# Altium footprint library RC_SMD_3D.PcbLib: 33 footprints (part 1 of 3)
Each footprint in its own frame and in the unit in brackets; x right, y up, seen from the top. Pads: shape width x height; smd on the part's side, far side on the other; paste and mask are expansions set on the pad; w line width, h text height; cw(c..) or ccw(c..) is an arc to the next point about the centre after c.
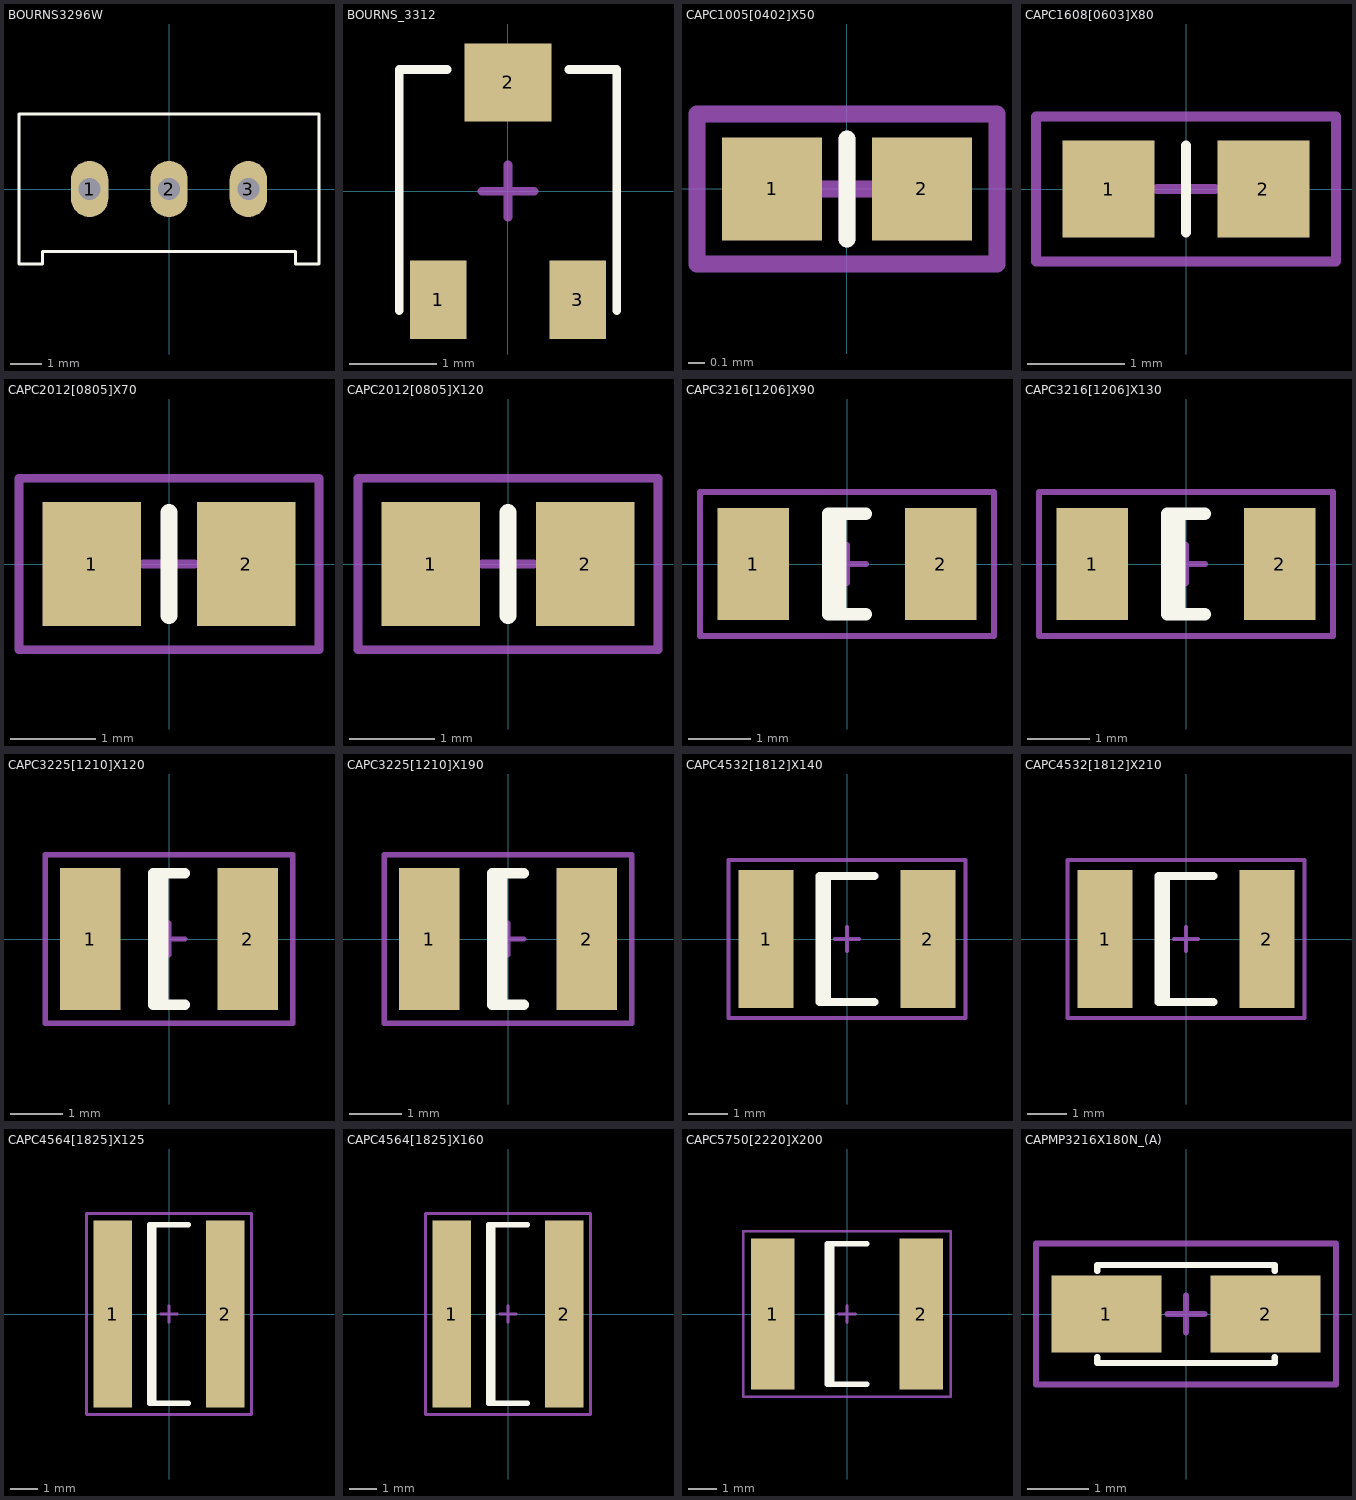
[diagram p0: the footprints below, top view; thin cyan lines are the x and y axes]

## BOURNS3296W [mm] "Trimmer 3296W"
height 11.5
pads (3):
  oval 1.2x1.8 hole 0.7: 1(-2.54,0) 2(0,0) 3(2.54,0)
Top Overlay:
  lines w0.1: -4.8,-2.4 -4.05,-2.4 -4.05,-2 4.05,-2 4.05,-2.4 4.8,-2.4 4.8,2.4 -4.8,2.4 -4.8,-2.4
3D body: height 10, standoff 9, extent -4.8,-2.4 -4.05,-2
3D body: height 10, standoff 9, extent 4.05,-2.4 4.8,-2
3D body: height 1, standoff 0, extent 4.05,-2.4 4.8,-2
3D body: height 1, standoff 0, extent -4.8,-2.4 -4.05,-2
3D body: height 0.4, standoff 0, extent -4.8,-2 -4.05,2.4
3D body: height 10, standoff 0.4, extent -4.8,-2 4.8,2.4
3D body: height 2, standoff 0, extent -2.798,-0.249 -2.3,0.25
3D body: height 0.4, standoff 0, extent -2.798,-0.249 -2.3,0.25
3D body: height 0.4, standoff 0, extent -0.248,-0.249 0.25,0.25
3D body: height 2, standoff 0, extent -0.248,-0.249 0.25,0.25
3D body: height 0.4, standoff 0, extent 2.302,-0.249 2.8,0.25
3D body: height 2, standoff 0, extent 2.302,-0.249 2.8,0.25
3D body: height 10.8, standoff 10, extent -4.591,0.002 -2.4,2.198
3D body: height 11.5, standoff 10.8, extent -3.496,-0.007 -2.39,2.207
3D body: height 11.5, standoff 10.8, extent -4.61,-0.007 -3.504,2.207

## BOURNS_3312 [mm] "Potentiometer 3pin"
height 1.7
pads (3):
  rect 0.65x0.9 smd: 1(-0.8,-1.25) 3(0.8,-1.25)
  rect 1x0.9 smd: 2(0,1.25)
Top Overlay:
  lines w0.1: -1.25,-1.375 -1.25,1.4 -0.7,1.4 ; 0.7,1.4 1.25,1.4 1.25,-1.375
Courtyard (15):
  lines w0.1: -0.3,0 0.3,0 ; 0,-0.3 0,0.3
3D body: height 1.3, standoff 0, extent -1,-1 0.992,0.996
3D body: height 1.7, standoff 0, extent 0.1,-0.806 0.806,0.806
3D body: height 1.7, standoff 0, extent -0.806,-0.803 -0.1,0.809
3D body: height 1.4, standoff 0, extent -0.1,-0.803 0.1,0.806
3D body: height 1.7, standoff 0, extent 0,-1.375 1.25,1.4
3D body: height 1.7, standoff 0, extent -1.25,-1.375 0,1.4
3D body: height 0.4, standoff 0, extent -1,-1.45 -0.625,-1.4
3D body: height 1.65, standoff 0, extent -1.175,-1.4 1.175,-1.375
3D body: height 1.65, standoff 0, extent -1.175,1.4 1.175,1.425
3D body: height 0.4, standoff 0, extent 0.613,-1.45 0.988,-1.4
3D body: height 0.4, standoff 0, extent -0.188,1.425 0.188,1.475

## CAPC1005[0402]X50 [mm] "Chip Capacitor; 1.0x0.5mm"
height 0.5
pads (2):
  rect 0.6x0.62 smd: 1(-0.45,0) 2(0.45,0)
Top Overlay:
  lines w0.1: 0,-0.3 0,0.3
Courtyard (15):
  lines w0.1: -0.3,0 0.3,0 ; 0,-0.3 0,0.3 ; -0.9,-0.45 -0.9,0.45 0.9,0.45 0.9,-0.45 -0.9,-0.45
3D body: height 0.5, standoff 0, extent -0.2,-0.25 0.2,0.25
3D body: height 0.5, standoff 0, extent -0.5,-0.25 -0.2,0.25
3D body: height 0.5, standoff 0, extent 0.2,-0.25 0.5,0.25

## CAPC1608[0603]X80 [mm] "Chip Capacitor; 1.6x0.8mm"
height 0.8
pads (2):
  rect 0.95x1 smd: 1(-0.8,0) 2(0.8,0)
Top Overlay:
  lines w0.1: 0,-0.45 0,0.45
Courtyard (15):
  lines w0.1: -0.3,0 0.3,0 ; 0,-0.3 0,0.3 ; -1.55,-0.75 -1.55,0.75 1.55,0.75 1.55,-0.75 -1.55,-0.75
3D body: height 0.8, standoff 0, extent -0.4,-0.4 0.4,0.4
3D body: height 0.8, standoff 0, extent -0.8,-0.4 -0.4,0.4
3D body: height 0.8, standoff 0, extent 0.4,-0.4 0.8,0.4

## CAPC2012[0805]X70 [mm] "Chip Capacitor; 2x1.25mm"
height 0.7
pads (2):
  rect 1.15x1.45 smd: 1(-0.9,0) 2(0.9,0)
Top Overlay:
  lines w0.2: 0,-0.6 0,0.6
Courtyard (15):
  lines w0.1: -0.3,0 0.3,0 ; 0,-0.3 0,0.3 ; -1.75,-1 -1.75,1 1.75,1 1.75,-1 -1.75,-1
3D body: height 0.7, standoff 0, extent -0.55,-0.6 0.55,0.6
3D body: height 0.7, standoff 0, extent -1.05,-0.6 -0.55,0.6
3D body: height 0.7, standoff 0, extent 0.55,-0.6 1.05,0.6

## CAPC2012[0805]X120 [mm] "Chip Capacitor; 2x1.25mm"
height 1.2
pads (2):
  rect 1.15x1.45 smd: 1(-0.9,0) 2(0.9,0)
Top Overlay:
  lines w0.2: 0,-0.6 0,0.6
Courtyard (15):
  lines w0.1: -0.3,0 0.3,0 ; 0,-0.3 0,0.3 ; -1.75,-1 1.75,-1 1.75,1 -1.75,1 -1.75,-1
3D body: height 1.2, standoff 0, extent -0.55,-0.6 0.55,0.6
3D body: height 1.2, standoff 0, extent -1.05,-0.6 -0.55,0.6
3D body: height 1.2, standoff 0, extent 0.55,-0.6 1.05,0.6

## CAPC3216[1206]X90 [mm] "Chip Capacitor; 3.2x1.6mm"
height 0.9
pads (2):
  rect 1.15x1.8 smd: 1(-1.5,0) 2(1.5,0)
Top Overlay:
  lines w0.2: -0.11,-0.8 -0.11,0.8 ; 0.3,-0.8 -0.3,-0.8 -0.3,0.8 0.3,0.8
Courtyard (15):
  lines w0.1: -0.3,0 0.3,0 ; 0,-0.3 0,0.3 ; -2.35,-1.15 2.35,-1.15 2.35,1.15 -2.35,1.15 -2.35,-1.15
3D body: height 0.9, standoff 0, extent -1.1,-0.8 1.1,0.8
3D body: height 0.9, standoff 0, extent -1.6,-0.8 -1.1,0.8
3D body: height 0.9, standoff 0, extent 1.1,-0.8 1.6,0.8

## CAPC3216[1206]X130 [mm] "Chip Capacitor; 3.2x1.6mm"
height 1.3
pads (2):
  rect 1.15x1.8 smd: 1(-1.5,0) 2(1.5,0)
Top Overlay:
  lines w0.2: -0.11,-0.8 -0.11,0.8 ; 0.3,-0.8 -0.3,-0.8 -0.3,0.8 0.3,0.8
Courtyard (15):
  lines w0.1: -0.3,0 0.3,0 ; 0,-0.3 0,0.3 ; -2.35,-1.15 2.35,-1.15 2.35,1.15 -2.35,1.15 -2.35,-1.15
3D body: height 1.3, standoff 0, extent -1.1,-0.8 1.1,0.8
3D body: height 1.3, standoff 0, extent -1.6,-0.8 -1.1,0.8
3D body: height 1.3, standoff 0, extent 1.1,-0.8 1.6,0.8

## CAPC3225[1210]X120 [mm] "Chip Capacitor; 3.2x2.5 mm"
height 1.2
pads (2):
  rect 1.15x2.7 smd: 1(-1.5,0) 2(1.5,0)
Top Overlay:
  lines w0.2: -0.11,-1.25 -0.11,1.25 ; 0.3,-1.25 -0.3,-1.25 -0.3,1.25 0.3,1.25
Courtyard (15):
  lines w0.1: -0.3,0 0.3,0 ; 0,-0.3 0,0.3 ; -2.35,-1.6 -2.35,1.6 2.35,1.6 2.35,-1.6 -2.35,-1.6
3D body: height 1.2, standoff 0, extent -1.1,-1.25 1.1,1.25
3D body: height 1.2, standoff 0, extent -1.6,-1.25 -1.1,1.25
3D body: height 1.2, standoff 0, extent 1.1,-1.25 1.6,1.25

## CAPC3225[1210]X190 [mm] "Chip Capacitor; 3.2x2.5mm"
height 1.9
pads (2):
  rect 1.15x2.7 smd: 1(-1.5,0) 2(1.5,0)
Top Overlay:
  lines w0.2: -0.11,-1.25 -0.11,1.25 ; 0.3,-1.25 -0.3,-1.25 -0.3,1.25 0.3,1.25
Courtyard (15):
  lines w0.1: -0.3,0 0.3,0 ; 0,-0.3 0,0.3 ; -2.35,-1.6 -2.35,1.6 2.35,1.6 2.35,-1.6 -2.35,-1.6
3D body: height 1.9, standoff 0, extent 1.1,-1.25 1.6,1.25
3D body: height 1.9, standoff 0, extent -1.6,-1.25 -1.1,1.25
3D body: height 1.9, standoff 0, extent -1.1,-1.25 1.1,1.25

## CAPC4532[1812]X140 [mm] "Chip Capacitor; 4.5x3.2mm"
height 1.4
pads (2):
  rect 1.4x3.5 smd: 1(-2.05,0) 2(2.05,0)
Top Overlay:
  lines w0.2: -0.51,-1.6 -0.51,1.6 ; 0.7,-1.6 -0.7,-1.6 -0.7,1.6 0.7,1.6
Courtyard (15):
  lines w0.1: -0.3,0 0.3,0 ; 0,-0.3 0,0.3 ; -3,-2 3,-2 3,2 -3,2 -3,-2
3D body: height 1.4, standoff 0, extent 1.65,-1.6 2.25,1.6
3D body: height 1.4, standoff 0, extent -2.25,-1.6 -1.65,1.6
3D body: height 1.4, standoff 0, extent -1.65,-1.6 1.65,1.6

## CAPC4532[1812]X210 [mm] "Chip Capacitor; 4.5x3.2mm"
height 2.1
pads (2):
  rect 1.4x3.5 smd: 1(-2.05,0) 2(2.05,0)
Top Overlay:
  lines w0.2: -0.51,-1.6 -0.51,1.6 ; 0.7,-1.6 -0.7,-1.6 -0.7,1.6 0.7,1.6
Courtyard (15):
  lines w0.1: -0.3,0 0.3,0 ; 0,-0.3 0,0.3 ; -3,-2 -3,2 3,2 3,-2 -3,-2
3D body: height 2.1, standoff 0, extent -1.65,-1.6 1.65,1.6
3D body: height 2.1, standoff 0, extent -2.25,-1.6 -1.65,1.6
3D body: height 2.1, standoff 0, extent 1.65,-1.6 2.25,1.6

## CAPC4564[1825]X125 [mm] "Chip Capacitor; 4.5x6.4mm"
height 1.25
pads (2):
  rect 1.4x6.8 smd: 1(-2.05,0) 2(2.05,0)
Top Overlay:
  lines w0.2: -0.55,-3.25 -0.55,3.25 ; 0.7,-3.25 -0.7,-3.25 -0.7,3.25 0.7,3.25
Courtyard (15):
  lines w0.1: -0.3,0 0.3,0 ; 0,-0.3 0,0.3 ; -3,-3.65 3,-3.65 3,3.65 -3,3.65 -3,-3.65
3D body: height 1.25, standoff 0, extent 1.65,-3.2 2.25,3.2
3D body: height 1.25, standoff 0, extent -2.25,-3.2 -1.65,3.2
3D body: height 1.25, standoff 0, extent -1.65,-3.2 1.65,3.2

## CAPC4564[1825]X160 [mm] "Chip Capacitor; 4.5x6.4mm"
height 1.6
pads (2):
  rect 1.4x6.8 smd: 1(-2.05,0) 2(2.05,0)
Top Overlay:
  lines w0.2: -0.55,-3.25 -0.55,3.25 ; 0.7,-3.25 -0.7,-3.25 -0.7,3.25 0.7,3.25
Courtyard (15):
  lines w0.1: -0.3,0 0.3,0 ; 0,-0.3 0,0.3 ; -3,-3.65 -3,3.65 3,3.65 3,-3.65 -3,-3.65
3D body: height 1.6, standoff 0, extent -1.65,-3.2 1.65,3.2
3D body: height 1.6, standoff 0, extent -2.25,-3.2 -1.65,3.2
3D body: height 1.6, standoff 0, extent 1.65,-3.2 2.25,3.2

## CAPC5750[2220]X200 [mm] "Chip Capacitor; 5.7x5.0mm"
height 2
pads (2):
  rect 1.55x5.4 smd: 1(-2.65,0) 2(2.65,0)
Top Overlay:
  lines w0.2: -0.55,-2.5 -0.55,2.5 ; 0.7,-2.5 -0.7,-2.5 -0.7,2.5 0.7,2.5
Courtyard (15):
  lines w0.1: -0.3,0 0.3,0 ; 0,-0.3 0,0.3 ; -3.7,-2.95 3.7,-2.95 3.7,2.95 -3.7,2.95 -3.7,-2.95
3D body: height 2, standoff 0, extent 2.25,-2.5 2.85,2.5
3D body: height 2, standoff 0, extent -2.85,-2.5 -2.25,2.5
3D body: height 2, standoff 0, extent -2.25,-2.5 2.25,2.5

## CAPMP3216X180N_(A) [mm] "Capacitor polarized; 3.2x1.6mm"
height 1.8
pads (2):
  rect 1.8x1.25 smd: 1(-1.3,0) 2(1.3,0)
Top Overlay:
  lines w0.1: -1.45,-0.7 -1.45,-0.798 1.45,-0.8 ; -1.45,0.7 -1.45,0.8 1.45,0.8 ; 1.45,-0.7 1.45,-0.8 ; 1.45,0.7 1.45,0.8 ; 1.45,-0.8 1.45,-0.8 ; 1.45,0.8 1.45,0.8
Courtyard (15):
  lines w0.1: -0.3,0 0.3,0 ; 0,-0.3 0,0.3 ; -2.45,-1.15 2.45,-1.15 2.45,1.15 -2.45,1.15 -2.45,-1.15
3D body: height 1.81, standoff 0.1, extent -1.45,0.75 -0.95,0.802
3D body: height 1.81, standoff 0.1, extent -1.45,-0.802 -0.95,-0.75
3D body: height 1.81, standoff 1.8, extent -1.45,-0.8 -0.95,0.8
3D body: height 1.8, standoff 0.1, extent -1.5,-0.8 1.5,0.8
3D body: height 0.1, standoff 0, extent -1.6,-0.6 -0.6,0.6
3D body: height 0.1, standoff 0, extent 0.6,-0.6 1.6,0.6
3D body: height 0.9, standoff 0, extent -1.6,-0.6 -1.5,0.6
3D body: height 0.9, standoff 0, extent 1.5,-0.6 1.6,0.6
3D body: height 0.1, standoff 0.05, extent -0.5,-0.8 0.5,0.8